# EAGLE library part TEENSY_BREADBOARD (library Headers)
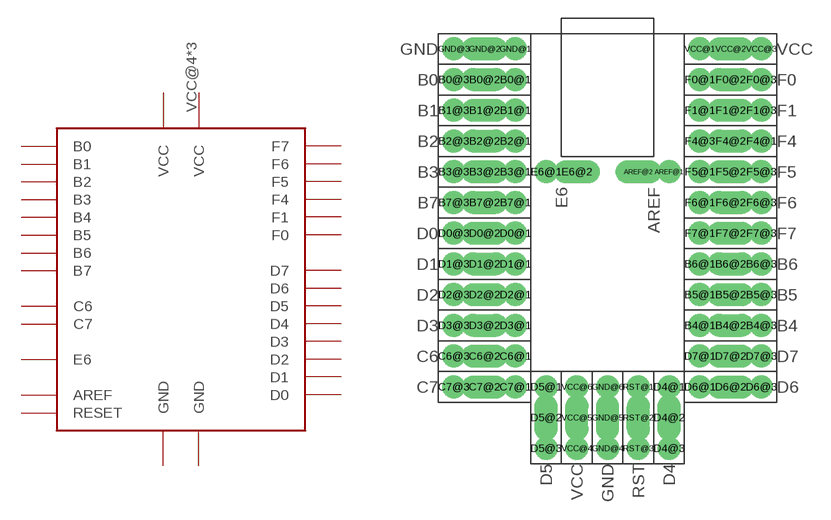
[diagram p1: symbol with the pads of TEENSY2.0_BREADBOARD; footprint TEENSY2.0_BREADBOARD]

Designator prefix -

## TEENSY_BREADBOARD  [TEENSY2.0_BREADBOARD]
AREF@1  AREF
AREF@2  AREF
B0@1  B0
B0@2  B0
B0@3  B0
B1@1  B1
B1@2  B1
B1@3  B1
B2@1  B2
B2@2  B2
B2@3  B2
B3@1  B3
B3@2  B3
B3@3  B3
B4@1  B4
B4@2  B4
B4@3  B4
B5@1  B5
B5@2  B5
B5@3  B5
B6@1  B6
B6@2  B6
B6@3  B6
B7@1  B7
B7@2  B7
B7@3  B7
C6@1  C6
C6@2  C6
C6@3  C6
C7@1  C7
C7@2  C7
C7@3  C7
D0@1  D0
D0@2  D0
D0@3  D0
D1@1  D1
D1@2  D1
D1@3  D1
D2@1  D2
D2@2  D2
D2@3  D2
D3@1  D3
D3@2  D3
D3@3  D3
D4@1  D4
D4@2  D4
D4@3  D4
D5@1  D5
D5@2  D5
D5@3  D5
D6@1  D6
D6@2  D6
D6@3  D6
D7@1  D7
D7@2  D7
D7@3  D7
E6@1  E6
E6@2  E6
F0@1  F0
F0@2  F0
F0@3  F0
F1@1  F1
F1@2  F1
F1@3  F1
F4@1  F4
F4@2  F4
F4@3  F4
F5@1  F5
F5@2  F5
F5@3  F5
F6@1  F6
F6@2  F6
F6@3  F6
F7@1  F7
F7@2  F7
F7@3  F7
GND@1  GND
GND@2  GND
GND@3  GND
GND@4  GND
GND@5  GND
GND@6  GND
RST@1  RESET
RST@2  RESET
RST@3  RESET
VCC@1  VCC
VCC@2  VCC
VCC@3  VCC
VCC@4  VCC
VCC@5  VCC
VCC@6  VCC

## Footprint TEENSY2.0_BREADBOARD (pad centres in mm)
Teensy 2.0 With Breadboard Headers
drill 1.1 pad 1.9: AREF@1 5.08,-6.35; B0@1 -7.62,1.27; B0@3 -12.7,1.27; B1@1 -7.62,-1.27; B1@3 -12.7,-1.27; B2@1 -7.62,-3.81; B2@3 -12.7,-3.81; B3@1 -7.62,-6.35; B3@3 -12.7,-6.35; B4@1 7.62,-19.05; B4@3 12.7,-19.05; B5@1 7.62,-16.51; B5@3 12.7,-16.51; B6@1 7.62,-13.97; B6@3 12.7,-13.97; B7@1 -7.62,-8.89; B7@3 -12.7,-8.89; C6@1 -7.62,-21.59; C6@3 -12.7,-21.59; C7@1 -7.62,-24.13; C7@3 -12.7,-24.13; D0@1 -7.62,-11.43; D0@3 -12.7,-11.43; D1@1 -7.62,-13.97; D1@3 -12.7,-13.97; D2@1 -7.62,-16.51; D2@3 -12.7,-16.51; D3@1 -7.62,-19.05; D3@3 -12.7,-19.05; D4@1 5.08,-24.13; D4@3 5.08,-29.21; D5@1 -5.08,-24.13; D5@3 -5.08,-29.21; D6@1 7.62,-24.13; D6@3 12.7,-24.13; D7@1 7.62,-21.59; D7@3 12.7,-21.59; E6@1 -5.08,-6.35; F0@1 7.62,1.27; F0@3 12.7,1.27; F1@1 7.62,-1.27; F1@3 12.7,-1.27; F4@1 12.7,-3.81; F4@3 7.62,-3.81; F5@1 7.62,-6.35; F5@3 12.7,-6.35; F6@1 7.62,-8.89; F6@3 12.7,-8.89; F7@1 7.62,-11.43; F7@3 12.7,-11.43; GND@1 -7.62,3.81; GND@3 -12.7,3.81; GND@4 0,-29.21; GND@6 0,-24.13; RST@1 2.54,-24.13; RST@3 2.54,-29.21; VCC@1 7.62,3.81; VCC@3 12.7,3.81; VCC@4 -2.54,-29.21; VCC@6 -2.54,-24.13
drill 1.1 pad 1.9 long: AREF@2 2.54,-6.35; B0@2 -10.16,1.27; B1@2 -10.16,-1.27; B2@2 -10.16,-3.81; B3@2 -10.16,-6.35; B4@2 10.16,-19.05; B5@2 10.16,-16.51; B6@2 10.16,-13.97; B7@2 -10.16,-8.89; C6@2 -10.16,-21.59; C7@2 -10.16,-24.13; D0@2 -10.16,-11.43; D1@2 -10.16,-13.97; D2@2 -10.16,-16.51; D3@2 -10.16,-19.05; D4@2 5.08,-26.67; D5@2 -5.08,-26.67; D6@2 10.16,-24.13; D7@2 10.16,-21.59; E6@2 -2.54,-6.35; F0@2 10.16,1.27; F1@2 10.16,-1.27; F4@2 10.16,-3.81; F5@2 10.16,-6.35; F6@2 10.16,-8.89; F7@2 10.16,-11.43; GND@2 -10.16,3.81; GND@5 0,-26.67; RST@2 2.54,-26.67; VCC@2 10.16,3.81; VCC@5 -2.54,-26.67